# Altium footprint library Mylibr.PcbLib: 102 footprints (part 2 of 7)
Each footprint in its own frame and in the unit in brackets; x right, y up, seen from the top. Pads: shape width x height; smd on the part's side, far side on the other; paste and mask are expansions set on the pad; w line width, h text height; cw(c..) or ccw(c..) is an arc to the next point about the centre after c.
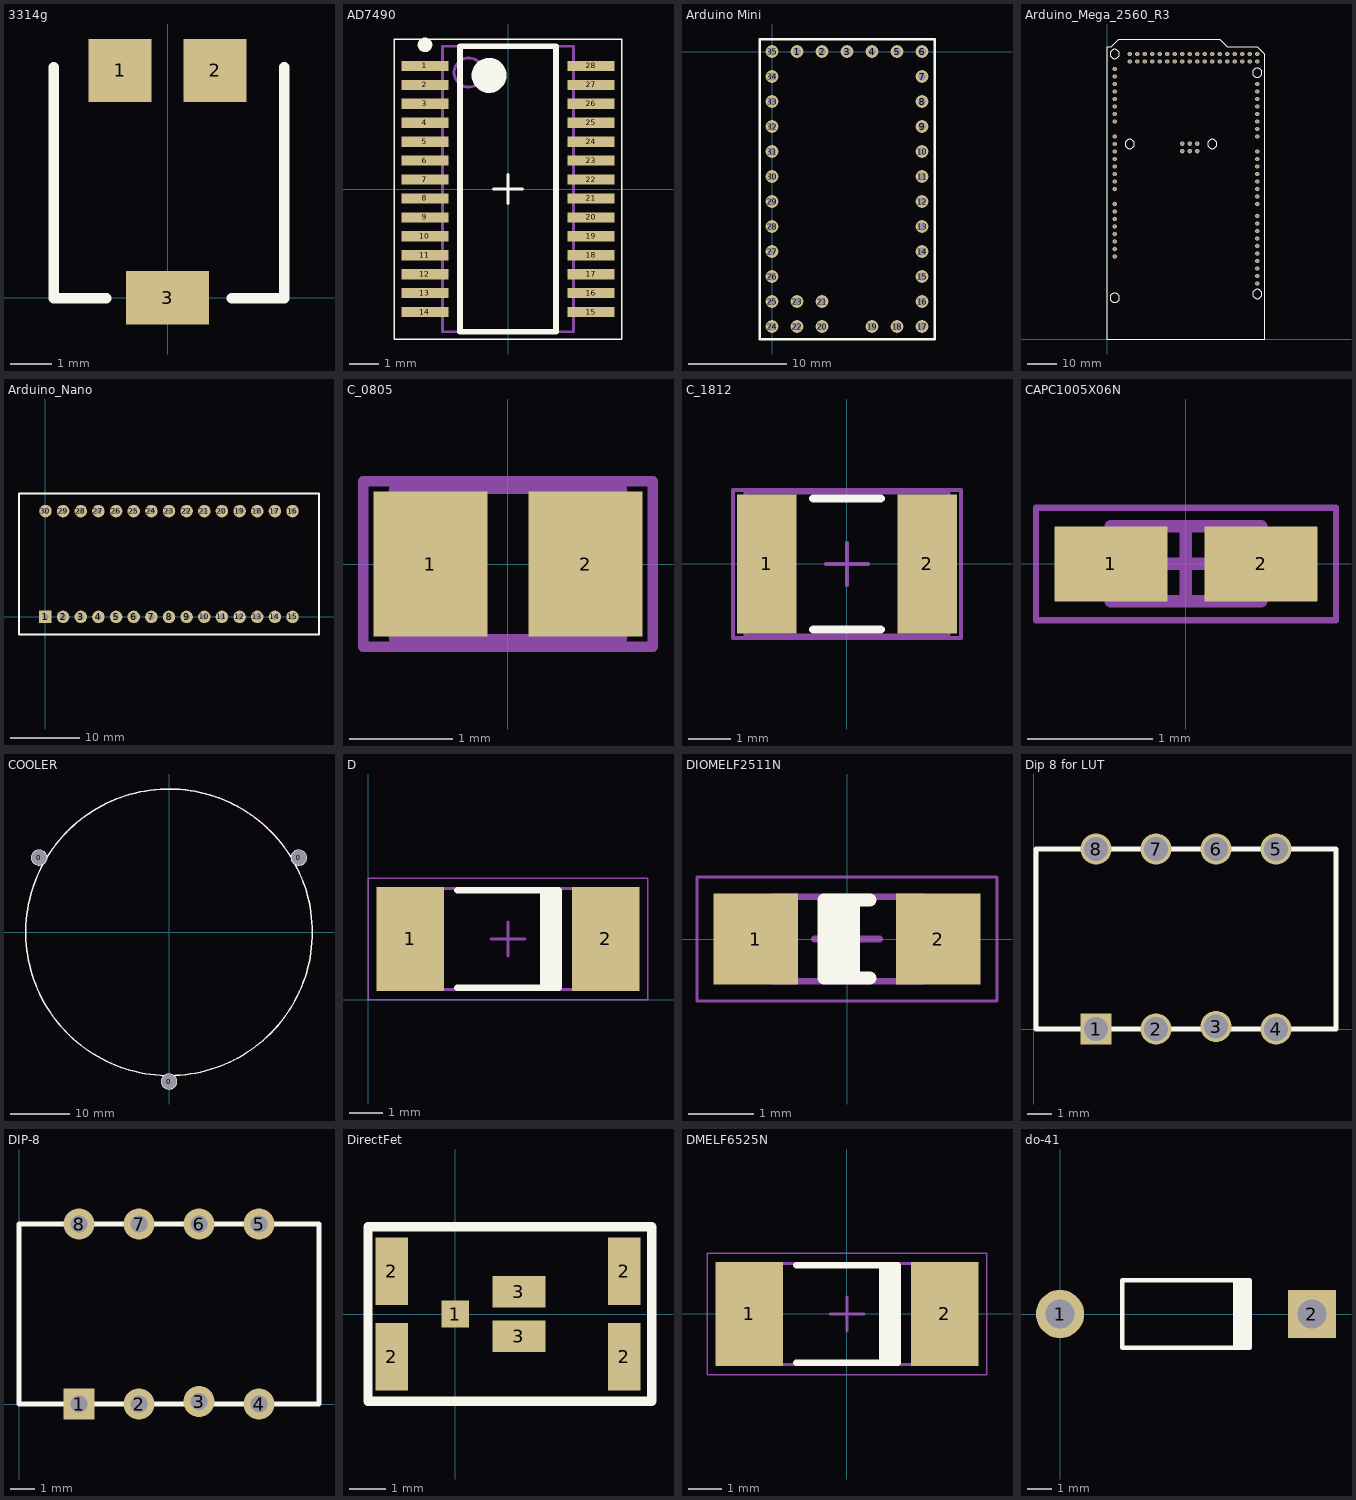
[diagram p1: the footprints below, top view; thin cyan lines are the x and y axes]

## 3314g [mm]
height 2.6
pads (3):
  rect 1.524x1.524 smd: 1(-1.15,5.5) 2(1.15,5.5)
  rect 2x1.3 smd: 3(0,0)
Top Overlay:
  lines w0.254: -2.758,5.58 -2.758,-0.008 -1.488,-0.008 ; 1.56,-0.008 2.83,-0.008 2.83,5.58

## AD7490 [mm] "TSSOP, 28-Leads"
height 1.2
pads (28):
  rect 1.6x0.35 smd: 1(-2.85,4.225) 2(-2.85,3.575) 3(-2.85,2.925) 4(-2.85,2.275) 5(-2.85,1.625) 6(-2.85,0.975) 7(-2.85,0.325) 8(-2.85,-0.325) 9(-2.85,-0.975) 10(-2.85,-1.625) 11(-2.85,-2.275) 12(-2.85,-2.925) 13(-2.85,-3.575) 14(-2.85,-4.225) 15(2.85,-4.225) 16(2.85,-3.575) 17(2.85,-2.925) 18(2.85,-2.275) 19(2.85,-1.625) 20(2.85,-0.975) 21(2.85,-0.325) 22(2.85,0.325) 23(2.85,0.975) 24(2.85,1.625) 25(2.85,2.275) 26(2.85,2.925) 27(2.85,3.575) 28(2.85,4.225)
Top Overlay:
  circle w0.6: c-0.65,3.9 r0.3
  circle w0.25: c-2.85,4.95 r0.125
  lines w0.05: -3.9,-5.15 3.9,-5.15 3.9,5.15 -3.9,5.15 -3.9,-5.15
  lines w0.1: -0.5,0 0.5,0 ; 0,-0.5 0,0.5
  lines w0.2: -1.65,-4.9 1.65,-4.9 1.65,4.9 -1.65,4.9 -1.65,-4.9
Mechanical 13:
  circle w0.1: c-1.35,4 r0.5
  lines w0.1: -2.25,-4.9 2.25,-4.9 2.25,4.9 -2.25,4.9 -2.25,-4.9
3D body: height 1.2, standoff 0.1, extent -2.25,-4.9 2.25,4.9

## Arduino Mini [mm]
pads (35):
  round 1.3 hole 0.8: 1(2.54,0) 2(5.08,0) 3(7.62,0) 4(10.16,0) 5(12.7,0) 6(15.24,0) 7(15.24,-2.54) 8(15.24,-5.08) 9(15.24,-7.62) 10(15.24,-10.16) 11(15.24,-12.7) 12(15.24,-15.24) 13(15.24,-17.78) 14(15.24,-20.32) 15(15.24,-22.86) 16(15.24,-25.4) 17(15.24,-27.94) 18(12.7,-27.94) 19(10.16,-27.94) 20(5.08,-27.94) 21(5.08,-25.4) 22(2.54,-27.94) 23(2.54,-25.4) 24(0,-27.94) 25(0,-25.4) 26(0,-22.86) 27(0,-20.32) 28(0,-17.78) 29(0,-15.24) 30(0,-12.7) 31(0,-10.16) 32(0,-7.62) 33(0,-5.08) 34(0,-2.54) 35(0,0)
Top Overlay:
  lines w0.254: -1.27,-29.21 16.51,-29.21 16.51,1.27 -1.27,1.27 -1.27,-29.21

## Arduino_Mega_2560_R3 [mil]
pads (92):
  round 60 hole 38: 0(100,1100) 1(100,1200) 2(100,1300) 3(100,1400) 4(100,1500) 5(100,1600) 6(100,1700) 7(100,1800) 8(100,2000) 9(100,2100) 10(100,2200) 11(100,2300) 12(100,2400) 13(100,2500) 14(100,2600) 15(100,2700) 16(100,2900) 17(100,3000) 18(100,3100) 19(100,3200) 20(100,3300) 21(100,3400) 22(100,3500) 23(100,3600) 24(2000,2500) 25(2000,2400) 26(2000,2300) 27(2000,2200) 28(2000,2100) 29(2000,2000) 30(2000,1900) 31(2000,1800) 32(2000,1640) 33(2000,1540) 34(2000,1440) 35(2000,1340) 36(2000,1240) 37(2000,1140) 38(2000,1040) 39(2000,940) 40(2000,840) 41(2000,740) 42(2000,2700) 43(2000,2800) 44(2000,2900) 45(2000,3000) 46(2000,3100) 47(2000,3200) 48(2000,3300) 49(2000,3400) 50(2000,3800) 51(2000,3700) 52(1900,3800) 53(1900,3700) 54(1800,3800) 55(1800,3700) 56(1700,3800) 57(1700,3700) 58(1600,3800) 59(1600,3700) 60(1500,3800) 61(1500,3700) 62(1400,3800) 63(1400,3700) 64(1300,3800) 65(1300,3700) 66(1200,3800) 67(1200,3700) 68(1100,3800) 69(1100,3700) 70(1000,3800) 71(1000,3700) 72(900,3800) 73(900,3700) 74(800,3800) 75(800,3700) 76(700,3800) 77(700,3700) 78(600,3800) 79(600,3700) 80(500,3800) 81(500,3700) 82(400,3800) 83(400,3700) 84(300,3800) 85(300,3700) 86(1000,2505) 87(1000,2605) 88(1100,2505) 89(1100,2605) 90(1200,2505) 91(1200,2605)
Top Overlay:
  circle w10: c100,3800 r62.5
  circle w10: c2000,3550 r62.5
  circle w10: c1400,2600 r62.5
  circle w10: c300,2600 r62.5
  circle w10: c100,550 r62.5
  circle w10: c2000,600 r62.5
  lines w10: 0,0 0,3900 50,3900 150,4000 1500,4000 1600,3900 2000,3900 2100,3800 2100,0 0,0

## Arduino_Nano [mm]
height 15
pads (30):
  rect 1.8x1.8 hole 0.9: 1(0,0)
  round 1.8 hole 0.9: 2(2.54,0) 3(5.08,0) 4(7.62,0) 5(10.16,0) 6(12.7,0) 7(15.24,0) 8(17.78,0) 9(20.32,0) 10(22.86,0) 11(25.4,0) 12(27.94,0) 13(30.48,0) 14(33.02,0) 15(35.56,0) 16(35.56,15.24) 17(33.02,15.24) 18(30.48,15.24) 19(27.94,15.24) 20(25.4,15.24) 21(22.86,15.24) 22(20.32,15.24) 23(17.78,15.24) 24(15.24,15.24) 25(12.7,15.24) 26(10.16,15.24) 27(7.62,15.24) 28(5.08,15.24) 29(2.54,15.24) 30(0,15.24)
Top Overlay:
  lines w0.254: -3.81,-2.54 -3.81,17.78 39.37,17.78 39.37,-2.54 -3.81,-2.54

## C_0805 [mm] "Chip Capacitor, Body 2.0x1.3mm, IPC High Density"
height 1.4
pads (2):
  rect 1.1x1.4 smd: 1(-0.75,0) 2(0.75,0)
Mechanical 13:
  lines w0.1: -1.1,-0.725 1.1,-0.725 1.1,0.725 -1.1,0.725 -1.1,-0.725
Mechanical 15:
  lines w0.1: -1.4,-0.8 1.4,-0.8 1.4,0.8 -1.4,0.8 -1.4,-0.8
3D body: height 1.4, standoff 0, extent -1.1,-0.725 1.1,0.725

## C_1812 [mm] "Chip Capacitor, Body 4.5x3.2mm, IPC High Density"
height 1.4
pads (2):
  rect 1.4x3.3 smd: 1(-1.9,0) 2(1.9,0)
Top Overlay:
  lines w0.2: -0.8,-1.55 0.8,-1.55 ; -0.8,1.55 0.8,1.55
Mechanical 13:
  lines w0.1: -2.4,-1.7 -2.4,1.7 2.4,1.7 2.4,-1.7 -2.4,-1.7
Mechanical 15:
  lines w0.1: -0.5,0 0.5,0 ; 0,-0.5 0,0.5 ; -2.7,-1.75 -2.7,1.75 2.7,1.75 2.7,-1.75 -2.7,-1.75
3D body: height 1.4, standoff 0, extent -2.4,-1.7 2.4,1.7

## CAPC1005X06N [mm] "Chip Capacitor, 2-Leads, Body 1,00x0,50mm, IPC Medium Density"
height 0.55
pads (2):
  rect 0.9x0.6 smd: 1(-0.6,0) 2(0.6,0)
Mechanical 13:
  lines w0.1: -0.6,-0.3 0.6,-0.3 0.6,0.3 -0.6,0.3 -0.6,-0.3
Mechanical 15:
  lines w0.05: -1.2,-0.45 1.2,-0.45 1.2,0.45 -1.2,0.45 -1.2,-0.45
  lines w0.1: -0.3,0 0.3,0 ; 0,-0.3 0,0.3
3D body: height 0.55, standoff 0, extent 0.4,-0.3 0.6,0.3
3D body: height 0.55, standoff 0, extent -0.6,-0.3 -0.4,0.3
3D body: height 0.55, standoff 0, extent -0.4,-0.3 0.4,0.3

## COOLER [mm]
pads (3):
  round 1.524 hole 2.5: 0(-21.75,12.5) 0(0,-25) 0(21.75,12.5)
Top Overlay:
  circle w0.254: c-21.75,12.5 r1.25
  circle w0.254: c21.75,12.5 r1.25
  circle w0.254: c0,-25 r1.25
  circle w0.254: c0,0 r24
Mechanical 1:
  lines w0.254: -20.785,12 cw(c0,0) 20.785,12

## D [mm]
pads (2):
  rect 2x3.1 smd: 1(1.25,1.8) 2(7.05,1.8)
Top Overlay:
  rectangle: 5.1,0.35 5.65,3.25
  lines w0.2: 2.65,0.35 5.65,0.35 5.65,3.25 2.65,3.25
Mechanical 13:
  lines w0.1: 0.65,0.3 0.65,3.3 7.65,3.3 7.65,0.3 0.65,0.3
Mechanical 15:
  lines w0.05: 0,0 0,3.6 8.3,3.6 8.3,0 0,0
  lines w0.1: 3.65,1.8 4.65,1.8 ; 4.15,1.3 4.15,2.3
3D body: height 2.99, standoff 0, extent 0.65,0.3 1.65,3.294
3D body: height 2.97, standoff 0.04, extent 5.45,0.329 6.05,3.265
3D body: height 2.97, standoff 0.05, extent 1.65,0.33 6.65,3.264
3D body: height 2.99, standoff 0, extent 6.65,0.3 7.65,3.294

## DIOMELF2511N [mm] "MELF Diode, 2-Leads, Body 2,55x1,10mm, IPC Medium Density"
height 1.3
pads (2):
  rect 1.3x1.4 smd: 1(-1.4,0) 2(1.4,0)
Top Overlay:
  rectangle: -0.35,-0.6 0.2,0.6
  lines w0.2: 0.35,-0.6 -0.35,-0.6 -0.35,0.6 0.35,0.6
Mechanical 13:
  lines w0.1: -1.15,-0.65 -1.15,0.65 1.15,0.65 1.15,-0.65 -1.15,-0.65
Mechanical 15:
  lines w0.05: -2.3,-0.95 -2.3,0.95 2.3,0.95 2.3,-0.95 -2.3,-0.95
  lines w0.1: -0.5,0 0.5,0 ; 0,-0.5 0,0.5
3D body: height 1.29, standoff 0, extent -1.15,-0.65 -0.6,0.647
3D body: height 1.28, standoff 0.04, extent 0,-0.621 0.6,0.619
3D body: height 1.28, standoff 0.05, extent -0.6,-0.62 0.6,0.618
3D body: height 1.29, standoff 0, extent 0.6,-0.65 1.15,0.647

## Dip 8 for LUT [mm]
pads (8):
  rect 1.3x1.3 hole 1 unplated: 1(2.6,0)
  round 1.3 hole 1 unplated: 2(5.1,0) 3(7.6,0.1) 4(10.1,0) 5(10.1,7.5) 6(7.6,7.5) 7(5.1,7.5) 8(2.6,7.5)
Top Overlay:
  lines w0.2: 0.1,0 0.1,7.5 12.6,7.5 12.6,0 0.1,0

## DIP-8 [mm]
pads (8):
  rect 1.3x1.3 hole 0.7 unplated: 1(2.5,0)
  round 1.3 hole 0.7 unplated: 2(5,0) 3(7.5,0.1) 4(10,0) 5(10,7.5) 6(7.5,7.5) 7(5,7.5) 8(2.5,7.5)
Top Overlay:
  lines w0.2: 0,0 0,7.5 12.5,7.5 12.5,0 0,0

## DirectFet [mm]
pads (7):
  rect 0.75x0.75 smd: 1(0,0)
  rect 0.9x1.85 smd: 2(-1.75,-1.175) 2(-1.75,1.175) 2(4.65,-1.175) 2(4.65,1.175)
  rect 1.45x0.87 smd: 3(1.75,-0.61) 3(1.75,0.61)
Top Overlay:
  lines w0.254: -2.4,-2.4 -2.4,2.4 5.4,2.4 5.4,-2.4 -2.4,-2.4

## DMELF6525N [mm] "MELF Diode, 2-Leads, Body 6,50x2,50mm, IPC Medium Density"
height 3
pads (2):
  rect 2x3.1 smd: 1(-2.9,0) 2(2.9,0)
Top Overlay:
  rectangle: 0.95,-1.45 1.5,1.45
  lines w0.2: -1.5,-1.45 1.5,-1.45 1.5,1.45 -1.5,1.45
Mechanical 13:
  lines w0.1: -3.5,-1.5 3.5,-1.5 3.5,1.5 -3.5,1.5 -3.5,-1.5
Mechanical 15:
  lines w0.05: -4.15,-1.8 4.15,-1.8 4.15,1.8 -4.15,1.8 -4.15,-1.8
  lines w0.1: -0.5,0 0.5,0 ; 0,-0.5 0,0.5
3D body: height 2.99, standoff 0, extent 2.5,-1.5 3.5,1.494
3D body: height 2.97, standoff 0.05, extent -2.5,-1.47 2.5,1.464
3D body: height 2.97, standoff 0.04, extent 1.3,-1.471 1.9,1.465
3D body: height 2.99, standoff 0, extent -3.5,-1.5 -2.5,1.494

## do-41 [mm]
pads (2):
  round 2 hole 1.2: 1(0,0)
  rect 2x2 hole 1.2: 2(10.46,0)
Top Overlay:
  rectangle: 7.18,-1.4 7.98,1.4
  lines w0.2: 7.88,-1.4 2.58,-1.4 2.58,1.4 7.88,1.4